# Altium schematic symbol library 61303021121.SchLib: 1 symbol
Pins are listed as number, name and electrical type; pins without a type are passive.

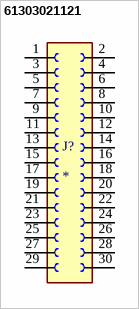
[diagram p0: symbol 61303021121]

## 61303021121
designator J?
<b> WR-PHD 2.54mm Dual Pin Header, 30 Pins </b>=>Code : Con_BTB_PHD_2.54_2_61303021121 <br><a href="http://katalog.we-online.de/media/images/eican/Con_BTB_PHD_2.54_2_6130xx21121_pf2.jpg" title="Enlarge picture"> <img src="http://katalog.we-online.de/media/thumbs2/eican/thb_Con_BTB_PHD_2.54_2_6130xx21121_pf2.jpg" width="320"></a><p> Details see: <a href="http://katalog.we-online.de/en/em/613_0xx_211_21">http://katalog.we-online.de/en/em/613_0xx_211_21</a><p> Created 2014-05-29, Karrer Zheng<br> 2014 (C) WÃ¼rth Elektronik; MF: {'manufacturer': u'Wurth Elektronik'}; Package: None; Availability: Unavailable; Price: None; MP: 61303021121; Value: *
footprint 61303021121
pins: 1, 2 30, 3 2, 4 29, 5 3, 6 28, 7 4, 8 27, 9 5, 10 26, 11 6, 12 25, 13 7, 14 24, 15 8, 16 23, 17 9, 18 22, 19 10, 20 21, 21 11, 22 20, 23 12, 24 19, 25 13, 26 18, 27 14, 28 17, 29 15, 30 16